# Altium footprint library PcbLib2.PcbLib: 1 footprints
Each footprint in its own frame and in the unit in brackets; x right, y up, seen from the top. Pads: shape width x height; smd on the part's side, far side on the other; paste and mask are expansions set on the pad; w line width, h text height; cw(c..) or ccw(c..) is an arc to the next point about the centre after c.
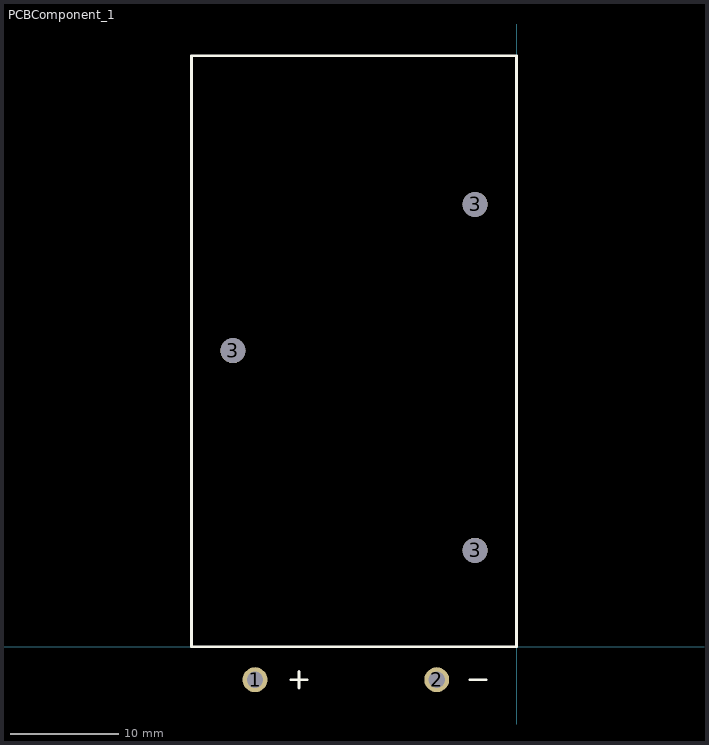
[diagram p0: the footprint, top view; thin cyan lines are the x and y axes]

## PCBComponent_1 [mm]
pads (5):
  round 2.3 hole 1.5: 1(-24.13,-3.048) 2(-7.366,-3.048)
  round 2.3 hole 2.3 unplated: 3(-26.175,27.3) 3(-3.825,8.89) 3(-3.825,40.8)
Top Overlay:
  lines w0.254: -20.828,-3.048 -19.304,-3.048 ; -20.066,-3.81 -20.066,-2.286 ; -4.318,-3.048 -2.794,-3.048 ; -30,0 0,0 0,54.5 -30,54.5 -30,0
3D body: height 0.25, standoff 0, extent -29.972,0 0,54.61